# Altium schematic symbol library 690157002072.SchLib: 1 symbol
Pins are listed as number, name and electrical type; pins without a type are passive.

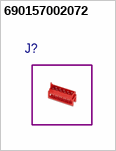
[diagram p0: symbol 690157002072]

## 690157002072
designator J?  (value not drawn)